# EAGLE library part TEENSY3.2 (library Phils teensy)
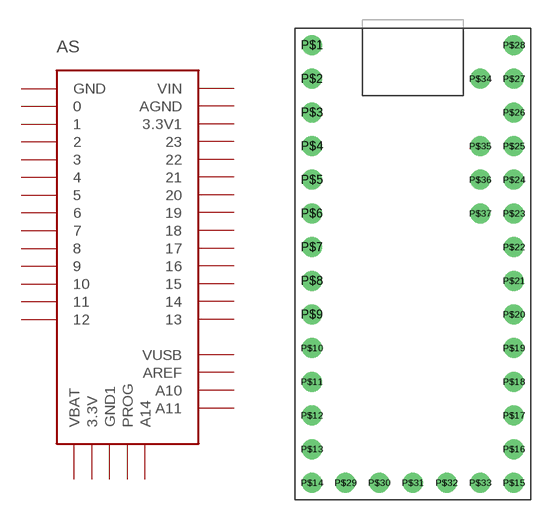
[diagram p1: symbol with the pads of TEENSY3.2; footprint TEENSY3.2]

Designator prefix AS

## TEENSY3.2  [TEENSY3.2]
P$1  GND
P$2  0
P$3  1
P$4  2
P$5  3
P$6  4
P$7  5
P$8  6
P$9  7
P$10  8
P$11  9
P$12  10
P$13  11
P$14  12
P$15  13
P$16  14
P$17  15
P$18  16
P$19  17
P$20  18
P$21  19
P$22  20
P$23  21
P$24  22
P$25  23
P$26  3.3V1
P$27  AGND
P$28  VIN
P$29  VBAT
P$30  3.3V
P$31  GND1
P$32  PROG
P$33  A14
P$34  VUSB
P$35  AREF
P$36  A10
P$37  A11

## Footprint TEENSY3.2 (pad centres in mm)
drill 1: P$1 -7.62,16.51; P$2 -7.62,13.97; P$3 -7.62,11.43; P$4 -7.62,8.89; P$5 -7.62,6.35; P$6 -7.62,3.81; P$7 -7.62,1.27; P$8 -7.62,-1.27; P$9 -7.62,-3.81; P$10 -7.62,-6.35; P$11 -7.62,-8.89; P$12 -7.62,-11.43; P$13 -7.62,-13.97; P$14 -7.62,-16.51; P$15 7.62,-16.51; P$16 7.62,-13.97; P$17 7.62,-11.43; P$18 7.62,-8.89; P$19 7.62,-6.35; P$20 7.62,-3.81; P$21 7.62,-1.27; P$22 7.62,1.27; P$23 7.62,3.81; P$24 7.62,6.35; P$25 7.62,8.89; P$26 7.62,11.43; P$27 7.62,13.97; P$28 7.62,16.51; P$29 -5.08,-16.51; P$30 -2.54,-16.51; P$31 0,-16.51; P$32 2.54,-16.51; P$33 5.08,-16.51; P$34 5.08,13.97; P$35 5.08,8.89; P$36 5.08,6.35; P$37 5.08,3.81